# Altium schematic symbol library HDMI_19Pin.Schlib: 1 symbol
Pins are listed as number, name and electrical type; pins without a type are passive.

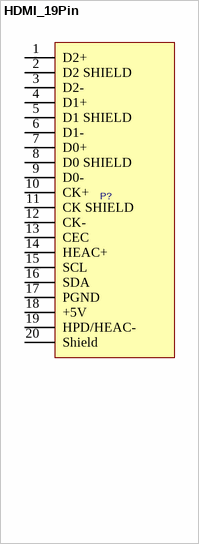
[diagram p0: symbol HDMI_19Pin]

## HDMI_19Pin
designator P?
HDMI Connector with 19 Pins
pins: 1 D2+, 2 D2 SHIELD, 3 D2-, 4 D1+, 5 D1 SHIELD, 6 D1-, 7 D0+, 8 D0 SHIELD, 9 D0-, 10 CK+, 11 CK SHIELD, 12 CK-, 13 CEC, 14 HEAC+, 15 SCL, 16 SDA, 17 PGND, 18 +5V, 19 HPD/HEAC-, 20 Shield